# Altium footprint library PCB - CONNECTOR - TE - TE NC6-P108-03.PCBLIB: 1 footprints
Each footprint in its own frame and in the unit in brackets; x right, y up, seen from the top. Pads: shape width x height; smd on the part's side, far side on the other; paste and mask are expansions set on the pad; w line width, h text height; cw(c..) or ccw(c..) is an arc to the next point about the centre after c.
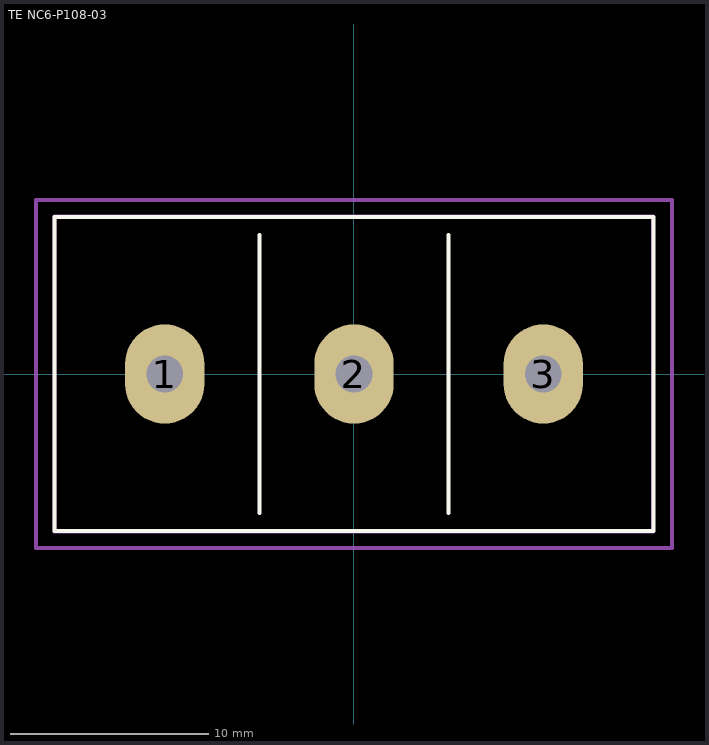
[diagram p0: the footprint, top view; thin cyan lines are the x and y axes]

## TE NC6-P108-03 [mm]
height 16.51
pads (3):
  oval 4x5 hole 1.854: 1(-9.525,0) 2(0,0) 3(9.526,0)
Top Overlay:
  lines w0.2: -4.763,-7 -4.763,7 ; 4.763,-7 4.763,7 ; -15.062,-7.9 15.063,-7.9 15.063,7.9 -15.062,7.9 -15.062,-7.9
Mechanical 1:
  lines w0.2: -15.075,-7.937 15.05,-7.937 15.05,7.938 -15.075,7.938 -15.075,-7.937
Mechanical 15:
  lines w0.2: -1,0 1,0 ; 0,-1 0,1 ; -16.013,-8.75 16.013,-8.75 16.013,8.75 -16.013,8.75 -16.013,-8.75
3D body "TE NC6-P108-03.STEP": height 16.38, standoff -4.57, extent -15.075,-7.937 15.05,7.938